# EAGLE library part A3958 (library allegro)
DMOS Full-Bridge PWM Motor Driver Integrated FETs provide 2A of current at up to 50V. Internal protection. Temp range -20 to 85 C
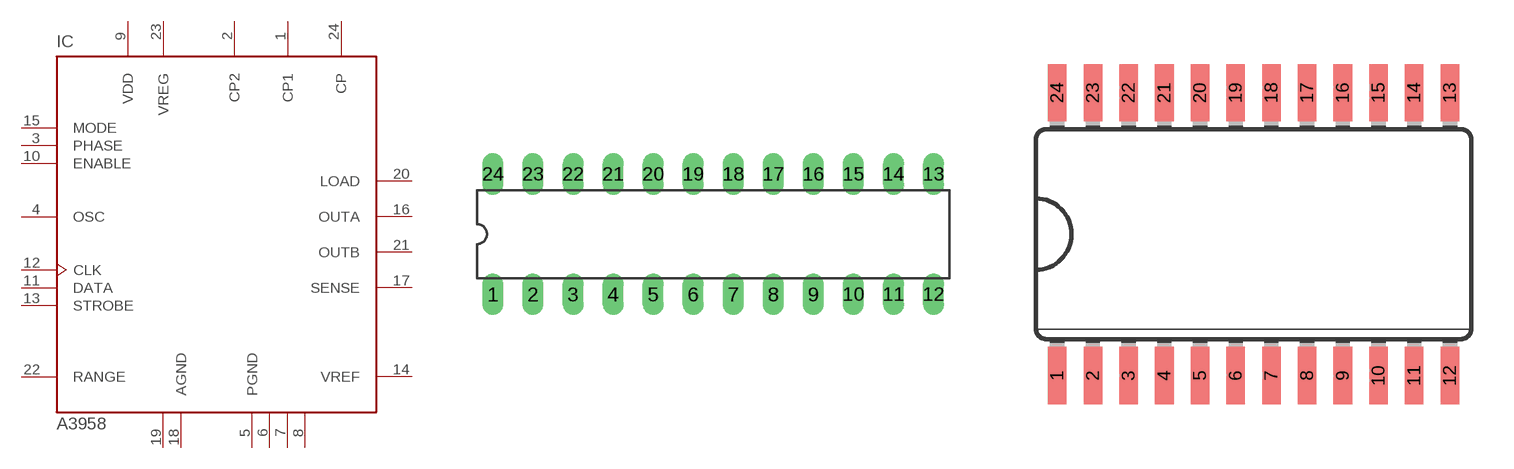
[diagram p0: symbol with the pads of DIL24-3; footprints DIL24-3, SO24L]

Designator prefix IC

## A3958SB  [DIL24-3]
1  CP1
2  CP2
3  PHASE  in
4  OSC
5  PGND  pwr
6  PGND2  pwr
7  PGND3  pwr
8  PGND4  pwr
9  VDD  pwr
10  ENABLE  in
11  DATA  in
12  CLK  in
13  STROBE  in
14  VREF  out
15  MODE  in
16  OUTA  out
17  SENSE  in
18  AGND  pwr
19  AGND2  pwr
20  LOAD  in
21  OUTB  out
22  RANGE  in
23  VREG  pwr
24  CP

## A3958SLB  [SO24L]
1  CP
2  CP1
3  CP2
4  PHASE  in
5  OSC
6  PGND  pwr
7  PGND2  pwr
8  VDD  pwr
9  ENABLE  in
10  DATA  in
11  CLK  in
12  STROBE  in
13  VREF  out
14  MODE  in
15  PGND3  pwr
16  OUTA  out
17  SENSE  in
18  AGND  pwr
19  AGND2  pwr
20  LOAD  in
21  OUTB  out
22  PGND4  pwr
23  RANGE  in
24  VREG  pwr

## Footprint DIL24-3 (pad centres in mm)
24-pin Dual Inline Package, 0.3" row spacing
drill 0.813 long: 1 -13.97,-3.81; 2 -11.43,-3.81; 3 -8.89,-3.81; 4 -6.35,-3.81; 5 -3.81,-3.81; 6 -1.27,-3.81; 7 1.27,-3.81; 8 3.81,-3.81; 9 6.35,-3.81; 10 8.89,-3.81; 11 11.43,-3.81; 12 13.97,-3.81; 13 13.97,3.81; 14 11.43,3.81; 15 8.89,3.81; 16 6.35,3.81; 17 3.81,3.81; 18 1.27,3.81; 19 -1.27,3.81; 20 -3.81,3.81; 21 -6.35,3.81; 22 -8.89,3.81; 23 -11.43,3.81; 24 -13.97,3.81

## Footprint SO24L (pad centres in mm)
24-pin Small Outline Package, wide
smd 0.66 x 2.032: 1 -6.985,-5.029; 2 -5.715,-5.029; 3 -4.445,-5.029; 4 -3.175,-5.029; 5 -1.905,-5.029; 6 -0.635,-5.029; 7 0.635,-5.029; 8 1.905,-5.029; 9 3.175,-5.029; 10 4.445,-5.029; 11 5.715,-5.029; 12 6.985,-5.029; 13 6.985,5.029; 14 5.715,5.029; 15 4.445,5.029; 16 3.175,5.029; 17 1.905,5.029; 18 0.635,5.029; 19 -0.635,5.029; 20 -1.905,5.029; 21 -3.175,5.029; 22 -4.445,5.029; 23 -5.715,5.029; 24 -6.985,5.029